# Altium schematic symbol library LCD_2x16_NHD-HEADER16.SchLib: 1 symbol
Pins are listed as number, name and electrical type; pins without a type are passive.

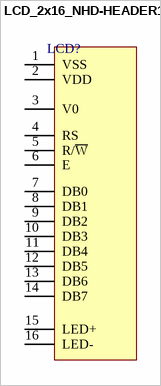
[diagram p0: symbol LCD_2x16_NHD-HEADER16]

## LCD_2x16_NHD-HEADER16
designator LCD?  (value not drawn)
pins: 1 VSS, 2 VDD, 3 V0, 4 RS, 5 R/~{W}, 6 E, 7 DB0, 8 DB1, 9 DB2, 10 DB3, 11 DB4, 12 DB5, 13 DB6, 14 DB7, 15 LED+, 16 LED-